# EAGLE library part LM2931ACDG (library on-semiconductor-01)
Low Dropout Linear Voltage Regulator
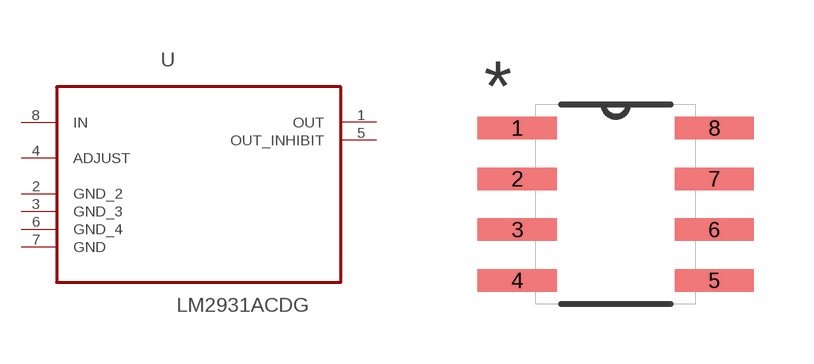
[diagram p44: symbol with the pads of SOIC127P600X175-8N; footprint SOIC127P600X175-8N]

Designator prefix U

## LM2931ACDG (MPN: LM2931ACDG; OC_FARNELL: 1703350; OC_NEWARK: 41K9871; PACKAGE: 8-SOIC; SUPPLIER: ON Semi)  [SOIC127P600X175-8N]
1  OUT  out
2  GND_2  pas
3  GND_3  pas
4  ADJUST  in
5  OUT_INHIBIT  out
6  GND_4  pas
7  GND  pas
8  IN  pwr

## Footprint SOIC127P600X175-8N (pad centres in mm)
smd 1.981 x 0.559: 1 -2.464,1.905; 2 -2.464,0.635; 3 -2.464,-0.635; 4 -2.464,-1.905; 5 2.464,-1.905; 6 2.464,-0.635; 7 2.464,0.635; 8 2.464,1.905